# Altium schematic symbol library TSW-104-14-T-S.SchLib: 1 symbol
Pins are listed as number, name and electrical type; pins without a type are passive.

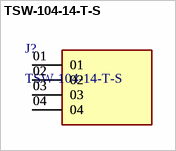
[diagram p0: symbol TSW-104-14-T-S]

## TSW-104-14-T-S
designator J?
footprint TSW-104-14-T-S (4 pins male header)
pins: 01, 01, 02, 02, 03, 03, 04, 04